# EAGLE library part TI-TPS63001 (library ClintonLib)
1.8-5.5Vin, 3.3Vout (for 001), 0.8-1.2Aout Single-Inductor Buck-Boost Converter 3x3mm 10-VSON aka 10-VF-DFN package Datasheet <http://www.ti.com/lit/ds/symlink/tps63001.pdf> Digikey <https://www.digikey.com/product-detail/en/texas-instruments/TPS63001DRCR/296-19643-1-ND/1016512>
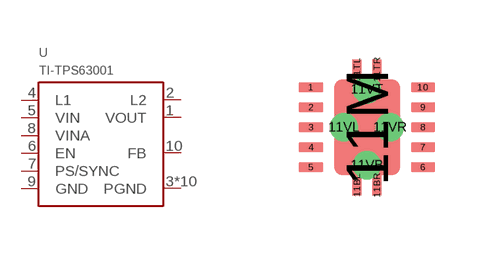
[diagram p36: symbol with the pads of TI-TPS-DRC0010J-VSON; footprint TI-TPS-DRC0010J-VSON]

Designator prefix -

## TI-TPS63001  [TI-TPS-DRC0010J-VSON]
1  VOUT
2  L2
3  PGND
4  L1
5  VIN
6  EN
7  PS/SYNC
8  VINA
9  GND
10  FB
11BL  PGND
11BR  PGND
11M  PGND
11TL  PGND
11TR  PGND
11VB  PGND
11VL  PGND
11VR  PGND
11VT  PGND

## Footprint TI-TPS-DRC0010J-VSON (pad centres in mm)
Used in TI TPS63001 buck-boost converter
smd 0.6 x 0.24: 1 -1.4,1; 2 -1.4,0.5; 3 -1.4,0; 4 -1.4,-0.5; 5 -1.4,-1; 6 1.4,-1; 7 1.4,-0.5; 8 1.4,0; 9 1.4,0.5; 10 1.4,1
smd 0.25 x 0.5: 11BL -0.25,-1.45; 11BR 0.25,-1.45; 11TL -0.25,1.45; 11TR 0.25,1.45
smd 1.65 x 2.4: 11M 0,0
drill 0.2 pad 0.406: 11VB 0,-0.95; 11VL -0.575,0; 11VR 0.575,0; 11VT 0,0.95